# EAGLE library part 615008141321 (library InputOutputIO (rev18b))
WR-MJ Horizontal Shielded with Bipolar LED & EMI Panel Finger, 8 Pins=>Code : thb_615008141321 <http://katalog.we-online.de/media/thumbs2/eican/thb_615008137421_pf2.jpg> Details see: http://katalog.we-online.de/en/em/MJ_HORIZONTAL_SHIELDED_W_LED_AND_EMI_PANEL_FINGER_8P8C_TAB_UP Created 2014-07-10, Karrer Zheng 2014 (C) Würth Elektronik
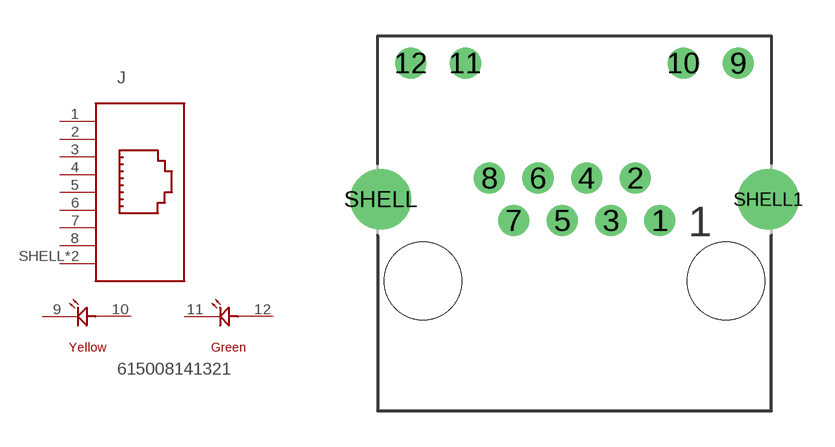
[diagram p111: symbol with the pads of 615008141321; footprint 615008141321]

Designator prefix J

## 615008141321  [615008141321]
1  8  pas
2  7  pas
3  6  pas
4  5  pas
5  4  pas
6  3  pas
7  2  pas
8  1  pas
9  10  pas
10  9  pas
11  12  pas
12  11  pas
SHELL  SHIELD  pas
SHELL1  SHIELD  pas

## Footprint 615008141321 (pad centres in mm)
WR-MJ MJ Horizontal Shielded with Bipolar LED & EMI Panel Finger, 8 pins
drill 0.8: 1 3.57,-0.89; 2 2.55,0.89; 3 1.53,-0.89; 4 0.51,0.89; 5 -0.51,-0.89; 6 -1.53,0.89; 7 -2.55,-0.89; 8 -3.57,0.89; 9 6.86,5.71; 10 4.57,5.71; 11 -4.57,5.71; 12 -6.86,5.71
drill 1.7: SHELL -8.125,0; SHELL1 8.125,0
hole 3.25 at -6.35,-3.43
hole 3.25 at 6.35,-3.43